# EAGLE library part HEADER (library 4-Digit-Clock)
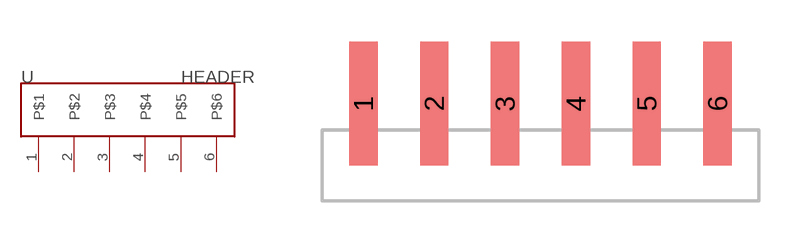
[diagram p0: symbol with the pads of HEADER; footprint HEADER]

Designator prefix -

## HEADER  [HEADER]
1  P$1
2  P$2
3  P$3
4  P$4
5  P$5
6  P$6

## Footprint HEADER (pad centres in mm)
smd 1.016 x 4.445: 1 -6.35,2.223; 2 -3.81,2.223; 3 -1.27,2.223; 4 1.27,2.223; 5 3.81,2.223; 6 6.35,2.223